# EAGLE library part 2626-3108/0020-0000 (library con-wago_2626)
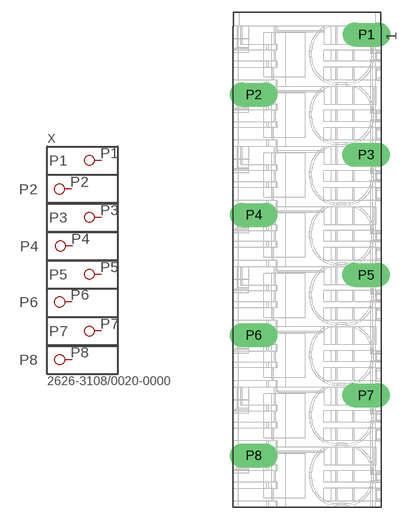
[diagram p9: symbol with the pads of P-2626-3108/0020-0000; footprint P-2626-3108/0020-0000]

Designator prefix X

## 2626-3108/0020-0000  [P-2626-3108/0020-0000]
P1  P1
P2  P2
P3  P3
P4  P4
P5  P5
P6  P6
P7  P7
P8  P8

## Footprint P-2626-3108/0020-0000 (pad centres in mm)
drill 2 pad 2.184 long: P1 0.05,-1; P2 -14,-8.5; P3 0,-16; P4 -14,-23.5; P5 0,-31; P6 -14,-38.5; P7 0,-46; P8 -14,-53.5